# Altium integrated library Spansion Memory Flash.IntLib: 812 symbols (part 10 of 21)
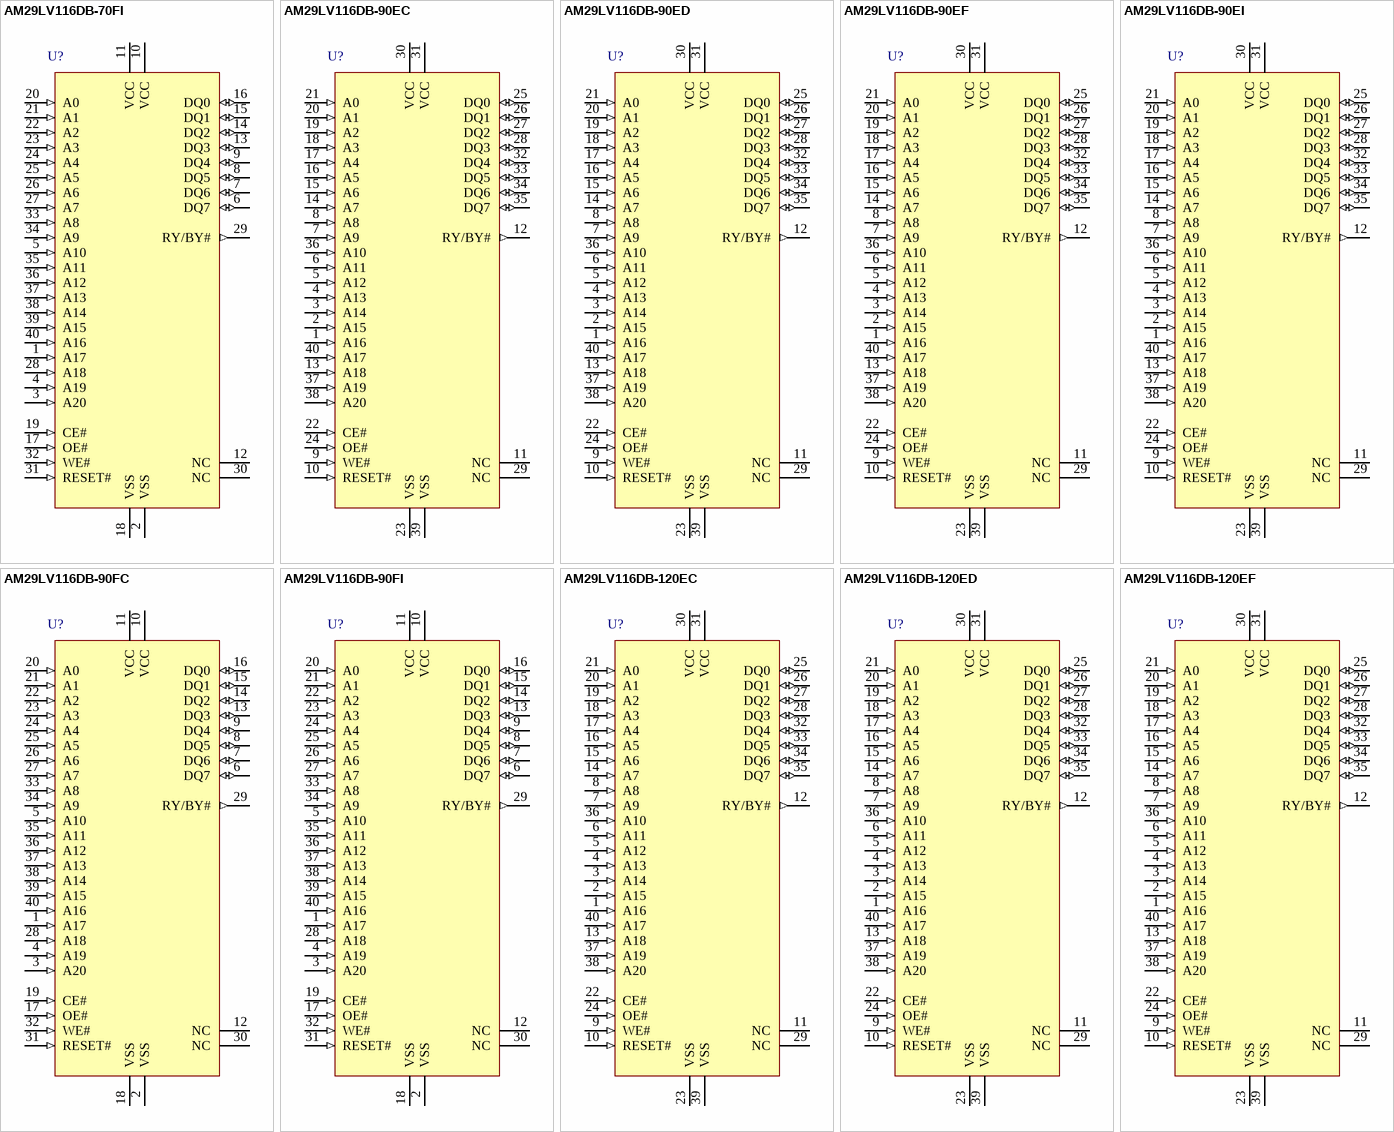
[diagram p75: symbols AM29LV116DB-70FI to AM29LV116DB-120EF]

## AM29LV116DB-70FI
designator U?
16 Mb (2 M x 8) CMOS 3.0 Volt Boot Sector Flash Memory, 40-Pin TSOP Reverse Pinout, Industrial Grade; Published: 6-Oct-2005; DatasheetVersion: May-2004; PackageVersion: revAA, 10/99; PackageReference: TSR040; Publisher: Altium Limited; PackageDescription: Thin Small Outline, Reverse Pinout; 40 Leads; Body Width 18.4 mm; Pitch 0.5 mm; Code_JEDEC: MO-142-CD; ComponentLink1Description: Manufacturer Link; ComponentLink1URL: http://www.spansion.com/; ComponentLink2Description: Datasheet; ComponentLink2URL: http://www.spansion.com/datasheets/21359e2.pdf
footprint TSR040 (Thin Small Outline, Reverse Pinout; 40 Leads; Body Width 18.4 mm; Pitch 0.5 mm)
pins: 1 A17 (in), 2 VSS (power), 3 A20 (in), 4 A19 (in), 5 A10 (in), 6 DQ7 (io), 7 DQ6 (io), 8 DQ5 (io), 9 DQ4 (io), 10 VCC (power), 11 VCC (power), 12 NC, 13 DQ3 (io), 14 DQ2 (io), 15 DQ1 (io), 16 DQ0 (io), 17 OE# (in), 18 VSS (power), 19 CE# (in), 20 A0 (in), 21 A1 (in), 22 A2 (in), 23 A3 (in), 24 A4 (in), 25 A5 (in), 26 A6 (in), 27 A7 (in), 28 A18 (in), 29 RY/BY# (out), 30 NC, 31 RESET# (in), 32 WE# (in), 33 A8 (in), 34 A9 (in), 35 A11 (in), 36 A12 (in), 37 A13 (in), 38 A14 (in), 39 A15 (in), 40 A16 (in)

## AM29LV116DB-90EC
designator U?
16 Mb (2 M x 8) CMOS 3.0 Volt Boot Sector Flash Memory, 40-Pin TSOP Standard Pinout, Commercial Grade; Published: 6-Oct-2005; DatasheetVersion: May-2004; PackageVersion: revAA, 10/99; PackageReference: TS040; Publisher: Altium Limited; PackageDescription: Thin Small Outline; 40 Leads; Body Width 18.4 mm; Pitch 0.5 mm; Code_JEDEC: MO-142-CD; ComponentLink1Description: Manufacturer Link; ComponentLink1URL: http://www.spansion.com/; ComponentLink2Description: Datasheet; ComponentLink2URL: http://www.spansion.com/datasheets/21359e2.pdf
footprint TS040 (Thin Small Outline; 40 Leads; Body Width 18.4 mm; Pitch 0.5 mm)
pins: 1 A16 (in), 2 A15 (in), 3 A14 (in), 4 A13 (in), 5 A12 (in), 6 A11 (in), 7 A9 (in), 8 A8 (in), 9 WE# (in), 10 RESET# (in), 11 NC, 12 RY/BY# (out), 13 A18 (in), 14 A7 (in), 15 A6 (in), 16 A5 (in), 17 A4 (in), 18 A3 (in), 19 A2 (in), 20 A1 (in), 21 A0 (in), 22 CE# (in), 23 VSS (power), 24 OE# (in), 25 DQ0 (io), 26 DQ1 (io), 27 DQ2 (io), 28 DQ3 (io), 29 NC, 30 VCC (power), 31 VCC (power), 32 DQ4 (io), 33 DQ5 (io), 34 DQ6 (io), 35 DQ7 (io), 36 A10 (in), 37 A19 (in), 38 A20 (in), 39 VSS (power), 40 A17 (in)

## AM29LV116DB-90ED
designator U?
16 Mb (2 M x 8) CMOS 3.0 Volt Boot Sector Flash Memory, 40-Pin TSOP Standard Pinout, Commercial Grade, Pb-free; Published: 6-Oct-2005; DatasheetVersion: May-2004; PackageVersion: revAA, 10/99; PackageReference: TS040; Publisher: Altium Limited; PackageDescription: Thin Small Outline; 40 Leads; Body Width 18.4 mm; Pitch 0.5 mm; Code_JEDEC: MO-142-CD; ComponentLink1Description: Manufacturer Link; ComponentLink1URL: http://www.spansion.com/; ComponentLink2Description: Datasheet; ComponentLink2URL: http://www.spansion.com/datasheets/21359e2.pdf
footprint TS040 (Thin Small Outline; 40 Leads; Body Width 18.4 mm; Pitch 0.5 mm)
pins: 1 A16 (in), 2 A15 (in), 3 A14 (in), 4 A13 (in), 5 A12 (in), 6 A11 (in), 7 A9 (in), 8 A8 (in), 9 WE# (in), 10 RESET# (in), 11 NC, 12 RY/BY# (out), 13 A18 (in), 14 A7 (in), 15 A6 (in), 16 A5 (in), 17 A4 (in), 18 A3 (in), 19 A2 (in), 20 A1 (in), 21 A0 (in), 22 CE# (in), 23 VSS (power), 24 OE# (in), 25 DQ0 (io), 26 DQ1 (io), 27 DQ2 (io), 28 DQ3 (io), 29 NC, 30 VCC (power), 31 VCC (power), 32 DQ4 (io), 33 DQ5 (io), 34 DQ6 (io), 35 DQ7 (io), 36 A10 (in), 37 A19 (in), 38 A20 (in), 39 VSS (power), 40 A17 (in)

## AM29LV116DB-90EF
designator U?
16 Mb (2 M x 8) CMOS 3.0 Volt Boot Sector Flash Memory, 40-Pin TSOP Standard Pinout, Industrial Grade, Pb-free; Published: 6-Oct-2005; DatasheetVersion: May-2004; PackageVersion: revAA, 10/99; PackageReference: TS040; Publisher: Altium Limited; PackageDescription: Thin Small Outline; 40 Leads; Body Width 18.4 mm; Pitch 0.5 mm; Code_JEDEC: MO-142-CD; ComponentLink1Description: Manufacturer Link; ComponentLink1URL: http://www.spansion.com/; ComponentLink2Description: Datasheet; ComponentLink2URL: http://www.spansion.com/datasheets/21359e2.pdf
footprint TS040 (Thin Small Outline; 40 Leads; Body Width 18.4 mm; Pitch 0.5 mm)
pins: 1 A16 (in), 2 A15 (in), 3 A14 (in), 4 A13 (in), 5 A12 (in), 6 A11 (in), 7 A9 (in), 8 A8 (in), 9 WE# (in), 10 RESET# (in), 11 NC, 12 RY/BY# (out), 13 A18 (in), 14 A7 (in), 15 A6 (in), 16 A5 (in), 17 A4 (in), 18 A3 (in), 19 A2 (in), 20 A1 (in), 21 A0 (in), 22 CE# (in), 23 VSS (power), 24 OE# (in), 25 DQ0 (io), 26 DQ1 (io), 27 DQ2 (io), 28 DQ3 (io), 29 NC, 30 VCC (power), 31 VCC (power), 32 DQ4 (io), 33 DQ5 (io), 34 DQ6 (io), 35 DQ7 (io), 36 A10 (in), 37 A19 (in), 38 A20 (in), 39 VSS (power), 40 A17 (in)

## AM29LV116DB-90EI
designator U?
16 Mb (2 M x 8) CMOS 3.0 Volt Boot Sector Flash Memory, 40-Pin TSOP Standard Pinout, Industrial Grade; Published: 6-Oct-2005; DatasheetVersion: May-2004; PackageVersion: revAA, 10/99; PackageReference: TS040; Publisher: Altium Limited; PackageDescription: Thin Small Outline; 40 Leads; Body Width 18.4 mm; Pitch 0.5 mm; Code_JEDEC: MO-142-CD; ComponentLink1Description: Manufacturer Link; ComponentLink1URL: http://www.spansion.com/; ComponentLink2Description: Datasheet; ComponentLink2URL: http://www.spansion.com/datasheets/21359e2.pdf
footprint TS040 (Thin Small Outline; 40 Leads; Body Width 18.4 mm; Pitch 0.5 mm)
pins: 1 A16 (in), 2 A15 (in), 3 A14 (in), 4 A13 (in), 5 A12 (in), 6 A11 (in), 7 A9 (in), 8 A8 (in), 9 WE# (in), 10 RESET# (in), 11 NC, 12 RY/BY# (out), 13 A18 (in), 14 A7 (in), 15 A6 (in), 16 A5 (in), 17 A4 (in), 18 A3 (in), 19 A2 (in), 20 A1 (in), 21 A0 (in), 22 CE# (in), 23 VSS (power), 24 OE# (in), 25 DQ0 (io), 26 DQ1 (io), 27 DQ2 (io), 28 DQ3 (io), 29 NC, 30 VCC (power), 31 VCC (power), 32 DQ4 (io), 33 DQ5 (io), 34 DQ6 (io), 35 DQ7 (io), 36 A10 (in), 37 A19 (in), 38 A20 (in), 39 VSS (power), 40 A17 (in)

## AM29LV116DB-90FC
designator U?
16 Mb (2 M x 8) CMOS 3.0 Volt Boot Sector Flash Memory, 40-Pin TSOP Reverse Pinout, Commercial Grade; Published: 6-Oct-2005; DatasheetVersion: May-2004; PackageVersion: revAA, 10/99; PackageReference: TSR040; Publisher: Altium Limited; PackageDescription: Thin Small Outline, Reverse Pinout; 40 Leads; Body Width 18.4 mm; Pitch 0.5 mm; Code_JEDEC: MO-142-CD; ComponentLink1Description: Manufacturer Link; ComponentLink1URL: http://www.spansion.com/; ComponentLink2Description: Datasheet; ComponentLink2URL: http://www.spansion.com/datasheets/21359e2.pdf
footprint TSR040 (Thin Small Outline, Reverse Pinout; 40 Leads; Body Width 18.4 mm; Pitch 0.5 mm)
pins: 1 A17 (in), 2 VSS (power), 3 A20 (in), 4 A19 (in), 5 A10 (in), 6 DQ7 (io), 7 DQ6 (io), 8 DQ5 (io), 9 DQ4 (io), 10 VCC (power), 11 VCC (power), 12 NC, 13 DQ3 (io), 14 DQ2 (io), 15 DQ1 (io), 16 DQ0 (io), 17 OE# (in), 18 VSS (power), 19 CE# (in), 20 A0 (in), 21 A1 (in), 22 A2 (in), 23 A3 (in), 24 A4 (in), 25 A5 (in), 26 A6 (in), 27 A7 (in), 28 A18 (in), 29 RY/BY# (out), 30 NC, 31 RESET# (in), 32 WE# (in), 33 A8 (in), 34 A9 (in), 35 A11 (in), 36 A12 (in), 37 A13 (in), 38 A14 (in), 39 A15 (in), 40 A16 (in)

## AM29LV116DB-90FI
designator U?
16 Mb (2 M x 8) CMOS 3.0 Volt Boot Sector Flash Memory, 40-Pin TSOP Reverse Pinout, Industrial Grade; Published: 6-Oct-2005; DatasheetVersion: May-2004; PackageVersion: revAA, 10/99; PackageReference: TSR040; Publisher: Altium Limited; PackageDescription: Thin Small Outline, Reverse Pinout; 40 Leads; Body Width 18.4 mm; Pitch 0.5 mm; Code_JEDEC: MO-142-CD; ComponentLink1Description: Manufacturer Link; ComponentLink1URL: http://www.spansion.com/; ComponentLink2Description: Datasheet; ComponentLink2URL: http://www.spansion.com/datasheets/21359e2.pdf
footprint TSR040 (Thin Small Outline, Reverse Pinout; 40 Leads; Body Width 18.4 mm; Pitch 0.5 mm)
pins: 1 A17 (in), 2 VSS (power), 3 A20 (in), 4 A19 (in), 5 A10 (in), 6 DQ7 (io), 7 DQ6 (io), 8 DQ5 (io), 9 DQ4 (io), 10 VCC (power), 11 VCC (power), 12 NC, 13 DQ3 (io), 14 DQ2 (io), 15 DQ1 (io), 16 DQ0 (io), 17 OE# (in), 18 VSS (power), 19 CE# (in), 20 A0 (in), 21 A1 (in), 22 A2 (in), 23 A3 (in), 24 A4 (in), 25 A5 (in), 26 A6 (in), 27 A7 (in), 28 A18 (in), 29 RY/BY# (out), 30 NC, 31 RESET# (in), 32 WE# (in), 33 A8 (in), 34 A9 (in), 35 A11 (in), 36 A12 (in), 37 A13 (in), 38 A14 (in), 39 A15 (in), 40 A16 (in)

## AM29LV116DB-120EC
designator U?
16 Mb (2 M x 8) CMOS 3.0 Volt Boot Sector Flash Memory, 40-Pin TSOP Standard Pinout, Commercial Grade; Published: 6-Oct-2005; DatasheetVersion: May-2004; PackageVersion: revAA, 10/99; PackageReference: TS040; Publisher: Altium Limited; PackageDescription: Thin Small Outline; 40 Leads; Body Width 18.4 mm; Pitch 0.5 mm; Code_JEDEC: MO-142-CD; ComponentLink1Description: Manufacturer Link; ComponentLink1URL: http://www.spansion.com/; ComponentLink2Description: Datasheet; ComponentLink2URL: http://www.spansion.com/datasheets/21359e2.pdf
footprint TS040 (Thin Small Outline; 40 Leads; Body Width 18.4 mm; Pitch 0.5 mm)
pins: 1 A16 (in), 2 A15 (in), 3 A14 (in), 4 A13 (in), 5 A12 (in), 6 A11 (in), 7 A9 (in), 8 A8 (in), 9 WE# (in), 10 RESET# (in), 11 NC, 12 RY/BY# (out), 13 A18 (in), 14 A7 (in), 15 A6 (in), 16 A5 (in), 17 A4 (in), 18 A3 (in), 19 A2 (in), 20 A1 (in), 21 A0 (in), 22 CE# (in), 23 VSS (power), 24 OE# (in), 25 DQ0 (io), 26 DQ1 (io), 27 DQ2 (io), 28 DQ3 (io), 29 NC, 30 VCC (power), 31 VCC (power), 32 DQ4 (io), 33 DQ5 (io), 34 DQ6 (io), 35 DQ7 (io), 36 A10 (in), 37 A19 (in), 38 A20 (in), 39 VSS (power), 40 A17 (in)

## AM29LV116DB-120ED
designator U?
16 Mb (2 M x 8) CMOS 3.0 Volt Boot Sector Flash Memory, 40-Pin TSOP Standard Pinout, Commercial Grade, Pb-free; Published: 6-Oct-2005; DatasheetVersion: May-2004; PackageVersion: revAA, 10/99; PackageReference: TS040; Publisher: Altium Limited; PackageDescription: Thin Small Outline; 40 Leads; Body Width 18.4 mm; Pitch 0.5 mm; Code_JEDEC: MO-142-CD; ComponentLink1Description: Manufacturer Link; ComponentLink1URL: http://www.spansion.com/; ComponentLink2Description: Datasheet; ComponentLink2URL: http://www.spansion.com/datasheets/21359e2.pdf
footprint TS040 (Thin Small Outline; 40 Leads; Body Width 18.4 mm; Pitch 0.5 mm)
pins: 1 A16 (in), 2 A15 (in), 3 A14 (in), 4 A13 (in), 5 A12 (in), 6 A11 (in), 7 A9 (in), 8 A8 (in), 9 WE# (in), 10 RESET# (in), 11 NC, 12 RY/BY# (out), 13 A18 (in), 14 A7 (in), 15 A6 (in), 16 A5 (in), 17 A4 (in), 18 A3 (in), 19 A2 (in), 20 A1 (in), 21 A0 (in), 22 CE# (in), 23 VSS (power), 24 OE# (in), 25 DQ0 (io), 26 DQ1 (io), 27 DQ2 (io), 28 DQ3 (io), 29 NC, 30 VCC (power), 31 VCC (power), 32 DQ4 (io), 33 DQ5 (io), 34 DQ6 (io), 35 DQ7 (io), 36 A10 (in), 37 A19 (in), 38 A20 (in), 39 VSS (power), 40 A17 (in)

## AM29LV116DB-120EF
designator U?
16 Mb (2 M x 8) CMOS 3.0 Volt Boot Sector Flash Memory, 40-Pin TSOP Standard Pinout, Industrial Grade, Pb-free; Published: 6-Oct-2005; DatasheetVersion: May-2004; PackageVersion: revAA, 10/99; PackageReference: TS040; Publisher: Altium Limited; PackageDescription: Thin Small Outline; 40 Leads; Body Width 18.4 mm; Pitch 0.5 mm; Code_JEDEC: MO-142-CD; ComponentLink1Description: Manufacturer Link; ComponentLink1URL: http://www.spansion.com/; ComponentLink2Description: Datasheet; ComponentLink2URL: http://www.spansion.com/datasheets/21359e2.pdf
footprint TS040 (Thin Small Outline; 40 Leads; Body Width 18.4 mm; Pitch 0.5 mm)
pins: 1 A16 (in), 2 A15 (in), 3 A14 (in), 4 A13 (in), 5 A12 (in), 6 A11 (in), 7 A9 (in), 8 A8 (in), 9 WE# (in), 10 RESET# (in), 11 NC, 12 RY/BY# (out), 13 A18 (in), 14 A7 (in), 15 A6 (in), 16 A5 (in), 17 A4 (in), 18 A3 (in), 19 A2 (in), 20 A1 (in), 21 A0 (in), 22 CE# (in), 23 VSS (power), 24 OE# (in), 25 DQ0 (io), 26 DQ1 (io), 27 DQ2 (io), 28 DQ3 (io), 29 NC, 30 VCC (power), 31 VCC (power), 32 DQ4 (io), 33 DQ5 (io), 34 DQ6 (io), 35 DQ7 (io), 36 A10 (in), 37 A19 (in), 38 A20 (in), 39 VSS (power), 40 A17 (in)

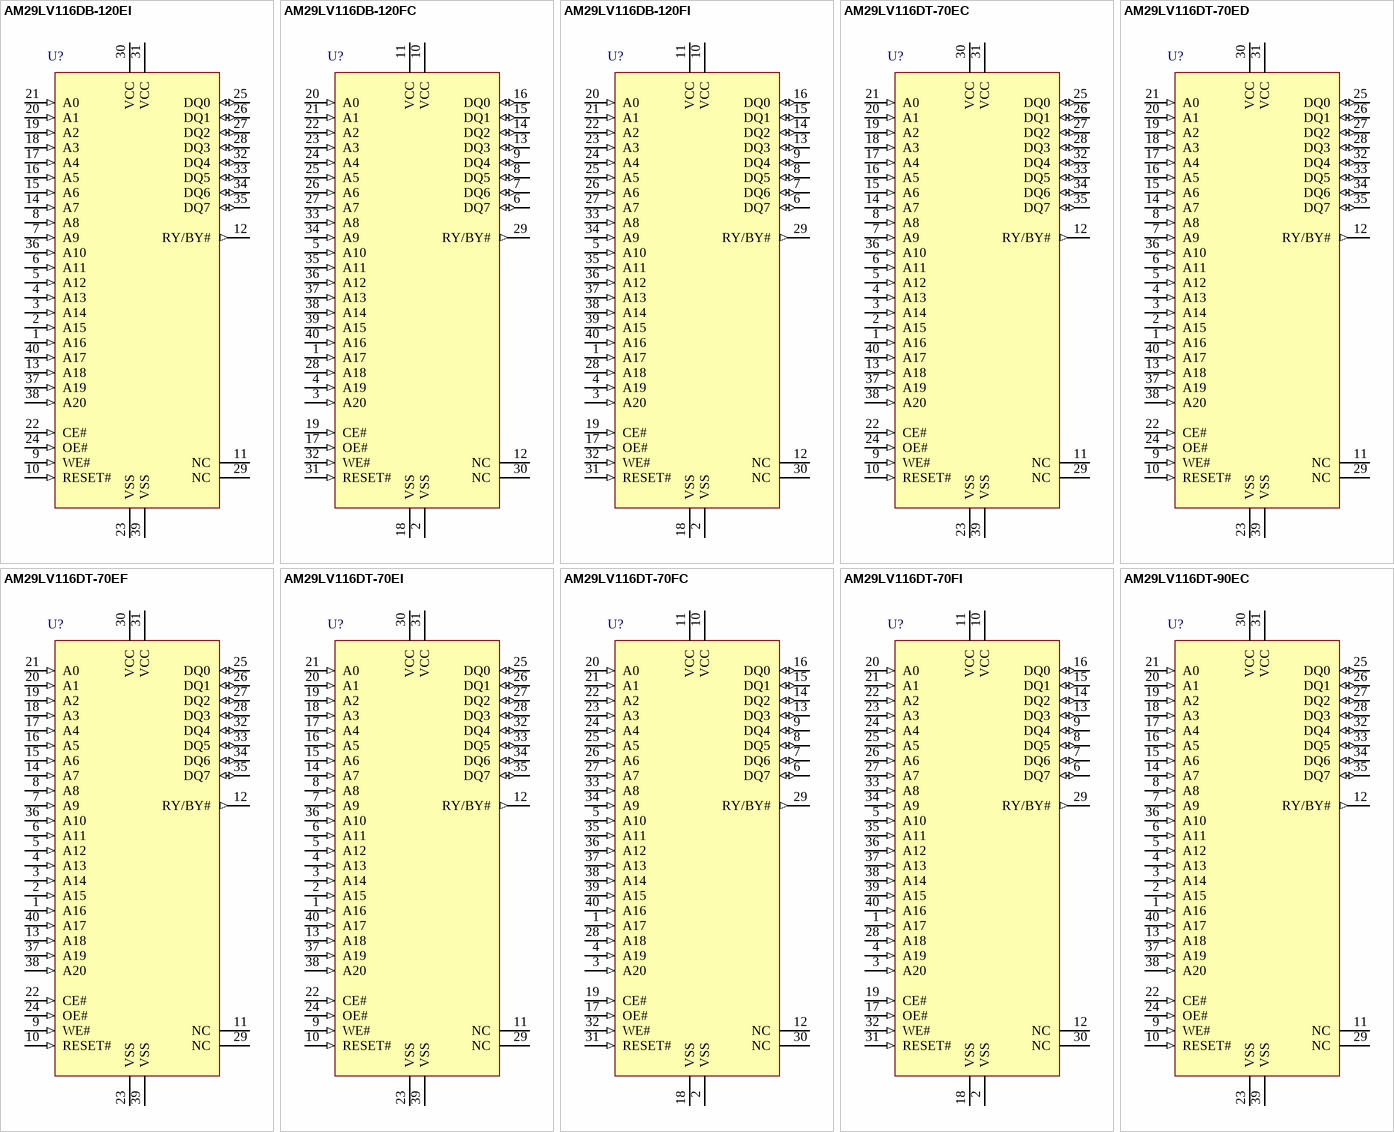
[diagram p30: symbols AM29LV116DB-120EI to AM29LV116DT-90EC]

## AM29LV116DB-120EI
designator U?
16 Mb (2 M x 8) CMOS 3.0 Volt Boot Sector Flash Memory, 40-Pin TSOP Standard Pinout, Industrial Grade; Published: 6-Oct-2005; DatasheetVersion: May-2004; PackageVersion: revAA, 10/99; PackageReference: TS040; Publisher: Altium Limited; PackageDescription: Thin Small Outline; 40 Leads; Body Width 18.4 mm; Pitch 0.5 mm; Code_JEDEC: MO-142-CD; ComponentLink1Description: Manufacturer Link; ComponentLink1URL: http://www.spansion.com/; ComponentLink2Description: Datasheet; ComponentLink2URL: http://www.spansion.com/datasheets/21359e2.pdf
footprint TS040 (Thin Small Outline; 40 Leads; Body Width 18.4 mm; Pitch 0.5 mm)
pins: 1 A16 (in), 2 A15 (in), 3 A14 (in), 4 A13 (in), 5 A12 (in), 6 A11 (in), 7 A9 (in), 8 A8 (in), 9 WE# (in), 10 RESET# (in), 11 NC, 12 RY/BY# (out), 13 A18 (in), 14 A7 (in), 15 A6 (in), 16 A5 (in), 17 A4 (in), 18 A3 (in), 19 A2 (in), 20 A1 (in), 21 A0 (in), 22 CE# (in), 23 VSS (power), 24 OE# (in), 25 DQ0 (io), 26 DQ1 (io), 27 DQ2 (io), 28 DQ3 (io), 29 NC, 30 VCC (power), 31 VCC (power), 32 DQ4 (io), 33 DQ5 (io), 34 DQ6 (io), 35 DQ7 (io), 36 A10 (in), 37 A19 (in), 38 A20 (in), 39 VSS (power), 40 A17 (in)

## AM29LV116DB-120FC
designator U?
16 Mb (2 M x 8) CMOS 3.0 Volt Boot Sector Flash Memory, 40-Pin TSOP Reverse Pinout, Commercial Grade; Published: 6-Oct-2005; DatasheetVersion: May-2004; PackageVersion: revAA, 10/99; PackageReference: TSR040; Publisher: Altium Limited; PackageDescription: Thin Small Outline, Reverse Pinout; 40 Leads; Body Width 18.4 mm; Pitch 0.5 mm; Code_JEDEC: MO-142-CD; ComponentLink1Description: Manufacturer Link; ComponentLink1URL: http://www.spansion.com/; ComponentLink2Description: Datasheet; ComponentLink2URL: http://www.spansion.com/datasheets/21359e2.pdf
footprint TSR040 (Thin Small Outline, Reverse Pinout; 40 Leads; Body Width 18.4 mm; Pitch 0.5 mm)
pins: 1 A17 (in), 2 VSS (power), 3 A20 (in), 4 A19 (in), 5 A10 (in), 6 DQ7 (io), 7 DQ6 (io), 8 DQ5 (io), 9 DQ4 (io), 10 VCC (power), 11 VCC (power), 12 NC, 13 DQ3 (io), 14 DQ2 (io), 15 DQ1 (io), 16 DQ0 (io), 17 OE# (in), 18 VSS (power), 19 CE# (in), 20 A0 (in), 21 A1 (in), 22 A2 (in), 23 A3 (in), 24 A4 (in), 25 A5 (in), 26 A6 (in), 27 A7 (in), 28 A18 (in), 29 RY/BY# (out), 30 NC, 31 RESET# (in), 32 WE# (in), 33 A8 (in), 34 A9 (in), 35 A11 (in), 36 A12 (in), 37 A13 (in), 38 A14 (in), 39 A15 (in), 40 A16 (in)

## AM29LV116DB-120FI
designator U?
16 Mb (2 M x 8) CMOS 3.0 Volt Boot Sector Flash Memory, 40-Pin TSOP Reverse Pinout, Industrial Grade; Published: 6-Oct-2005; DatasheetVersion: May-2004; PackageVersion: revAA, 10/99; PackageReference: TSR040; Publisher: Altium Limited; PackageDescription: Thin Small Outline, Reverse Pinout; 40 Leads; Body Width 18.4 mm; Pitch 0.5 mm; Code_JEDEC: MO-142-CD; ComponentLink1Description: Manufacturer Link; ComponentLink1URL: http://www.spansion.com/; ComponentLink2Description: Datasheet; ComponentLink2URL: http://www.spansion.com/datasheets/21359e2.pdf
footprint TSR040 (Thin Small Outline, Reverse Pinout; 40 Leads; Body Width 18.4 mm; Pitch 0.5 mm)
pins: 1 A17 (in), 2 VSS (power), 3 A20 (in), 4 A19 (in), 5 A10 (in), 6 DQ7 (io), 7 DQ6 (io), 8 DQ5 (io), 9 DQ4 (io), 10 VCC (power), 11 VCC (power), 12 NC, 13 DQ3 (io), 14 DQ2 (io), 15 DQ1 (io), 16 DQ0 (io), 17 OE# (in), 18 VSS (power), 19 CE# (in), 20 A0 (in), 21 A1 (in), 22 A2 (in), 23 A3 (in), 24 A4 (in), 25 A5 (in), 26 A6 (in), 27 A7 (in), 28 A18 (in), 29 RY/BY# (out), 30 NC, 31 RESET# (in), 32 WE# (in), 33 A8 (in), 34 A9 (in), 35 A11 (in), 36 A12 (in), 37 A13 (in), 38 A14 (in), 39 A15 (in), 40 A16 (in)

## AM29LV116DT-70EC
designator U?
16 Mb (2 M x 8) CMOS 3.0 Volt Boot Sector Flash Memory, 40-Pin TSOP Standard Pinout, Commercial Grade; Published: 6-Oct-2005; DatasheetVersion: May-2004; PackageVersion: revAA, 10/99; PackageReference: TS040; Publisher: Altium Limited; PackageDescription: Thin Small Outline; 40 Leads; Body Width 18.4 mm; Pitch 0.5 mm; Code_JEDEC: MO-142-CD; ComponentLink1Description: Manufacturer Link; ComponentLink1URL: http://www.spansion.com/; ComponentLink2Description: Datasheet; ComponentLink2URL: http://www.spansion.com/datasheets/21359e2.pdf
footprint TS040 (Thin Small Outline; 40 Leads; Body Width 18.4 mm; Pitch 0.5 mm)
pins: 1 A16 (in), 2 A15 (in), 3 A14 (in), 4 A13 (in), 5 A12 (in), 6 A11 (in), 7 A9 (in), 8 A8 (in), 9 WE# (in), 10 RESET# (in), 11 NC, 12 RY/BY# (out), 13 A18 (in), 14 A7 (in), 15 A6 (in), 16 A5 (in), 17 A4 (in), 18 A3 (in), 19 A2 (in), 20 A1 (in), 21 A0 (in), 22 CE# (in), 23 VSS (power), 24 OE# (in), 25 DQ0 (io), 26 DQ1 (io), 27 DQ2 (io), 28 DQ3 (io), 29 NC, 30 VCC (power), 31 VCC (power), 32 DQ4 (io), 33 DQ5 (io), 34 DQ6 (io), 35 DQ7 (io), 36 A10 (in), 37 A19 (in), 38 A20 (in), 39 VSS (power), 40 A17 (in)

## AM29LV116DT-70ED
designator U?
16 Mb (2 M x 8) CMOS 3.0 Volt Boot Sector Flash Memory, 40-Pin TSOP Standard Pinout, Commercial Grade, Pb-free; Published: 6-Oct-2005; DatasheetVersion: May-2004; PackageVersion: revAA, 10/99; PackageReference: TS040; Publisher: Altium Limited; PackageDescription: Thin Small Outline; 40 Leads; Body Width 18.4 mm; Pitch 0.5 mm; Code_JEDEC: MO-142-CD; ComponentLink1Description: Manufacturer Link; ComponentLink1URL: http://www.spansion.com/; ComponentLink2Description: Datasheet; ComponentLink2URL: http://www.spansion.com/datasheets/21359e2.pdf
footprint TS040 (Thin Small Outline; 40 Leads; Body Width 18.4 mm; Pitch 0.5 mm)
pins: 1 A16 (in), 2 A15 (in), 3 A14 (in), 4 A13 (in), 5 A12 (in), 6 A11 (in), 7 A9 (in), 8 A8 (in), 9 WE# (in), 10 RESET# (in), 11 NC, 12 RY/BY# (out), 13 A18 (in), 14 A7 (in), 15 A6 (in), 16 A5 (in), 17 A4 (in), 18 A3 (in), 19 A2 (in), 20 A1 (in), 21 A0 (in), 22 CE# (in), 23 VSS (power), 24 OE# (in), 25 DQ0 (io), 26 DQ1 (io), 27 DQ2 (io), 28 DQ3 (io), 29 NC, 30 VCC (power), 31 VCC (power), 32 DQ4 (io), 33 DQ5 (io), 34 DQ6 (io), 35 DQ7 (io), 36 A10 (in), 37 A19 (in), 38 A20 (in), 39 VSS (power), 40 A17 (in)

## AM29LV116DT-70EF
designator U?
16 Mb (2 M x 8) CMOS 3.0 Volt Boot Sector Flash Memory, 40-Pin TSOP Standard Pinout, Industrial Grade, Pb-free; Published: 6-Oct-2005; DatasheetVersion: May-2004; PackageVersion: revAA, 10/99; PackageReference: TS040; Publisher: Altium Limited; PackageDescription: Thin Small Outline; 40 Leads; Body Width 18.4 mm; Pitch 0.5 mm; Code_JEDEC: MO-142-CD; ComponentLink1Description: Manufacturer Link; ComponentLink1URL: http://www.spansion.com/; ComponentLink2Description: Datasheet; ComponentLink2URL: http://www.spansion.com/datasheets/21359e2.pdf
footprint TS040 (Thin Small Outline; 40 Leads; Body Width 18.4 mm; Pitch 0.5 mm)
pins: 1 A16 (in), 2 A15 (in), 3 A14 (in), 4 A13 (in), 5 A12 (in), 6 A11 (in), 7 A9 (in), 8 A8 (in), 9 WE# (in), 10 RESET# (in), 11 NC, 12 RY/BY# (out), 13 A18 (in), 14 A7 (in), 15 A6 (in), 16 A5 (in), 17 A4 (in), 18 A3 (in), 19 A2 (in), 20 A1 (in), 21 A0 (in), 22 CE# (in), 23 VSS (power), 24 OE# (in), 25 DQ0 (io), 26 DQ1 (io), 27 DQ2 (io), 28 DQ3 (io), 29 NC, 30 VCC (power), 31 VCC (power), 32 DQ4 (io), 33 DQ5 (io), 34 DQ6 (io), 35 DQ7 (io), 36 A10 (in), 37 A19 (in), 38 A20 (in), 39 VSS (power), 40 A17 (in)

## AM29LV116DT-70EI
designator U?
16 Mb (2 M x 8) CMOS 3.0 Volt Boot Sector Flash Memory, 40-Pin TSOP Standard Pinout, Industrial Grade; Published: 6-Oct-2005; DatasheetVersion: May-2004; PackageVersion: revAA, 10/99; PackageReference: TS040; Publisher: Altium Limited; PackageDescription: Thin Small Outline; 40 Leads; Body Width 18.4 mm; Pitch 0.5 mm; Code_JEDEC: MO-142-CD; ComponentLink1Description: Manufacturer Link; ComponentLink1URL: http://www.spansion.com/; ComponentLink2Description: Datasheet; ComponentLink2URL: http://www.spansion.com/datasheets/21359e2.pdf
footprint TS040 (Thin Small Outline; 40 Leads; Body Width 18.4 mm; Pitch 0.5 mm)
pins: 1 A16 (in), 2 A15 (in), 3 A14 (in), 4 A13 (in), 5 A12 (in), 6 A11 (in), 7 A9 (in), 8 A8 (in), 9 WE# (in), 10 RESET# (in), 11 NC, 12 RY/BY# (out), 13 A18 (in), 14 A7 (in), 15 A6 (in), 16 A5 (in), 17 A4 (in), 18 A3 (in), 19 A2 (in), 20 A1 (in), 21 A0 (in), 22 CE# (in), 23 VSS (power), 24 OE# (in), 25 DQ0 (io), 26 DQ1 (io), 27 DQ2 (io), 28 DQ3 (io), 29 NC, 30 VCC (power), 31 VCC (power), 32 DQ4 (io), 33 DQ5 (io), 34 DQ6 (io), 35 DQ7 (io), 36 A10 (in), 37 A19 (in), 38 A20 (in), 39 VSS (power), 40 A17 (in)

## AM29LV116DT-70FC
designator U?
16 Mb (2 M x 8) CMOS 3.0 Volt Boot Sector Flash Memory, 40-Pin TSOP Reverse Pinout, Commercial Grade; Published: 6-Oct-2005; DatasheetVersion: May-2004; PackageVersion: revAA, 10/99; PackageReference: TSR040; Publisher: Altium Limited; PackageDescription: Thin Small Outline, Reverse Pinout; 40 Leads; Body Width 18.4 mm; Pitch 0.5 mm; Code_JEDEC: MO-142-CD; ComponentLink1Description: Manufacturer Link; ComponentLink1URL: http://www.spansion.com/; ComponentLink2Description: Datasheet; ComponentLink2URL: http://www.spansion.com/datasheets/21359e2.pdf
footprint TSR040 (Thin Small Outline, Reverse Pinout; 40 Leads; Body Width 18.4 mm; Pitch 0.5 mm)
pins: 1 A17 (in), 2 VSS (power), 3 A20 (in), 4 A19 (in), 5 A10 (in), 6 DQ7 (io), 7 DQ6 (io), 8 DQ5 (io), 9 DQ4 (io), 10 VCC (power), 11 VCC (power), 12 NC, 13 DQ3 (io), 14 DQ2 (io), 15 DQ1 (io), 16 DQ0 (io), 17 OE# (in), 18 VSS (power), 19 CE# (in), 20 A0 (in), 21 A1 (in), 22 A2 (in), 23 A3 (in), 24 A4 (in), 25 A5 (in), 26 A6 (in), 27 A7 (in), 28 A18 (in), 29 RY/BY# (out), 30 NC, 31 RESET# (in), 32 WE# (in), 33 A8 (in), 34 A9 (in), 35 A11 (in), 36 A12 (in), 37 A13 (in), 38 A14 (in), 39 A15 (in), 40 A16 (in)

## AM29LV116DT-70FI
designator U?
16 Mb (2 M x 8) CMOS 3.0 Volt Boot Sector Flash Memory, 40-Pin TSOP Reverse Pinout, Industrial Grade; Published: 6-Oct-2005; DatasheetVersion: May-2004; PackageVersion: revAA, 10/99; PackageReference: TSR040; Publisher: Altium Limited; PackageDescription: Thin Small Outline, Reverse Pinout; 40 Leads; Body Width 18.4 mm; Pitch 0.5 mm; Code_JEDEC: MO-142-CD; ComponentLink1Description: Manufacturer Link; ComponentLink1URL: http://www.spansion.com/; ComponentLink2Description: Datasheet; ComponentLink2URL: http://www.spansion.com/datasheets/21359e2.pdf
footprint TSR040 (Thin Small Outline, Reverse Pinout; 40 Leads; Body Width 18.4 mm; Pitch 0.5 mm)
pins: 1 A17 (in), 2 VSS (power), 3 A20 (in), 4 A19 (in), 5 A10 (in), 6 DQ7 (io), 7 DQ6 (io), 8 DQ5 (io), 9 DQ4 (io), 10 VCC (power), 11 VCC (power), 12 NC, 13 DQ3 (io), 14 DQ2 (io), 15 DQ1 (io), 16 DQ0 (io), 17 OE# (in), 18 VSS (power), 19 CE# (in), 20 A0 (in), 21 A1 (in), 22 A2 (in), 23 A3 (in), 24 A4 (in), 25 A5 (in), 26 A6 (in), 27 A7 (in), 28 A18 (in), 29 RY/BY# (out), 30 NC, 31 RESET# (in), 32 WE# (in), 33 A8 (in), 34 A9 (in), 35 A11 (in), 36 A12 (in), 37 A13 (in), 38 A14 (in), 39 A15 (in), 40 A16 (in)

## AM29LV116DT-90EC
designator U?
16 Mb (2 M x 8) CMOS 3.0 Volt Boot Sector Flash Memory, 40-Pin TSOP Standard Pinout, Commercial Grade; Published: 6-Oct-2005; DatasheetVersion: May-2004; PackageVersion: revAA, 10/99; PackageReference: TS040; Publisher: Altium Limited; PackageDescription: Thin Small Outline; 40 Leads; Body Width 18.4 mm; Pitch 0.5 mm; Code_JEDEC: MO-142-CD; ComponentLink1Description: Manufacturer Link; ComponentLink1URL: http://www.spansion.com/; ComponentLink2Description: Datasheet; ComponentLink2URL: http://www.spansion.com/datasheets/21359e2.pdf
footprint TS040 (Thin Small Outline; 40 Leads; Body Width 18.4 mm; Pitch 0.5 mm)
pins: 1 A16 (in), 2 A15 (in), 3 A14 (in), 4 A13 (in), 5 A12 (in), 6 A11 (in), 7 A9 (in), 8 A8 (in), 9 WE# (in), 10 RESET# (in), 11 NC, 12 RY/BY# (out), 13 A18 (in), 14 A7 (in), 15 A6 (in), 16 A5 (in), 17 A4 (in), 18 A3 (in), 19 A2 (in), 20 A1 (in), 21 A0 (in), 22 CE# (in), 23 VSS (power), 24 OE# (in), 25 DQ0 (io), 26 DQ1 (io), 27 DQ2 (io), 28 DQ3 (io), 29 NC, 30 VCC (power), 31 VCC (power), 32 DQ4 (io), 33 DQ5 (io), 34 DQ6 (io), 35 DQ7 (io), 36 A10 (in), 37 A19 (in), 38 A20 (in), 39 VSS (power), 40 A17 (in)

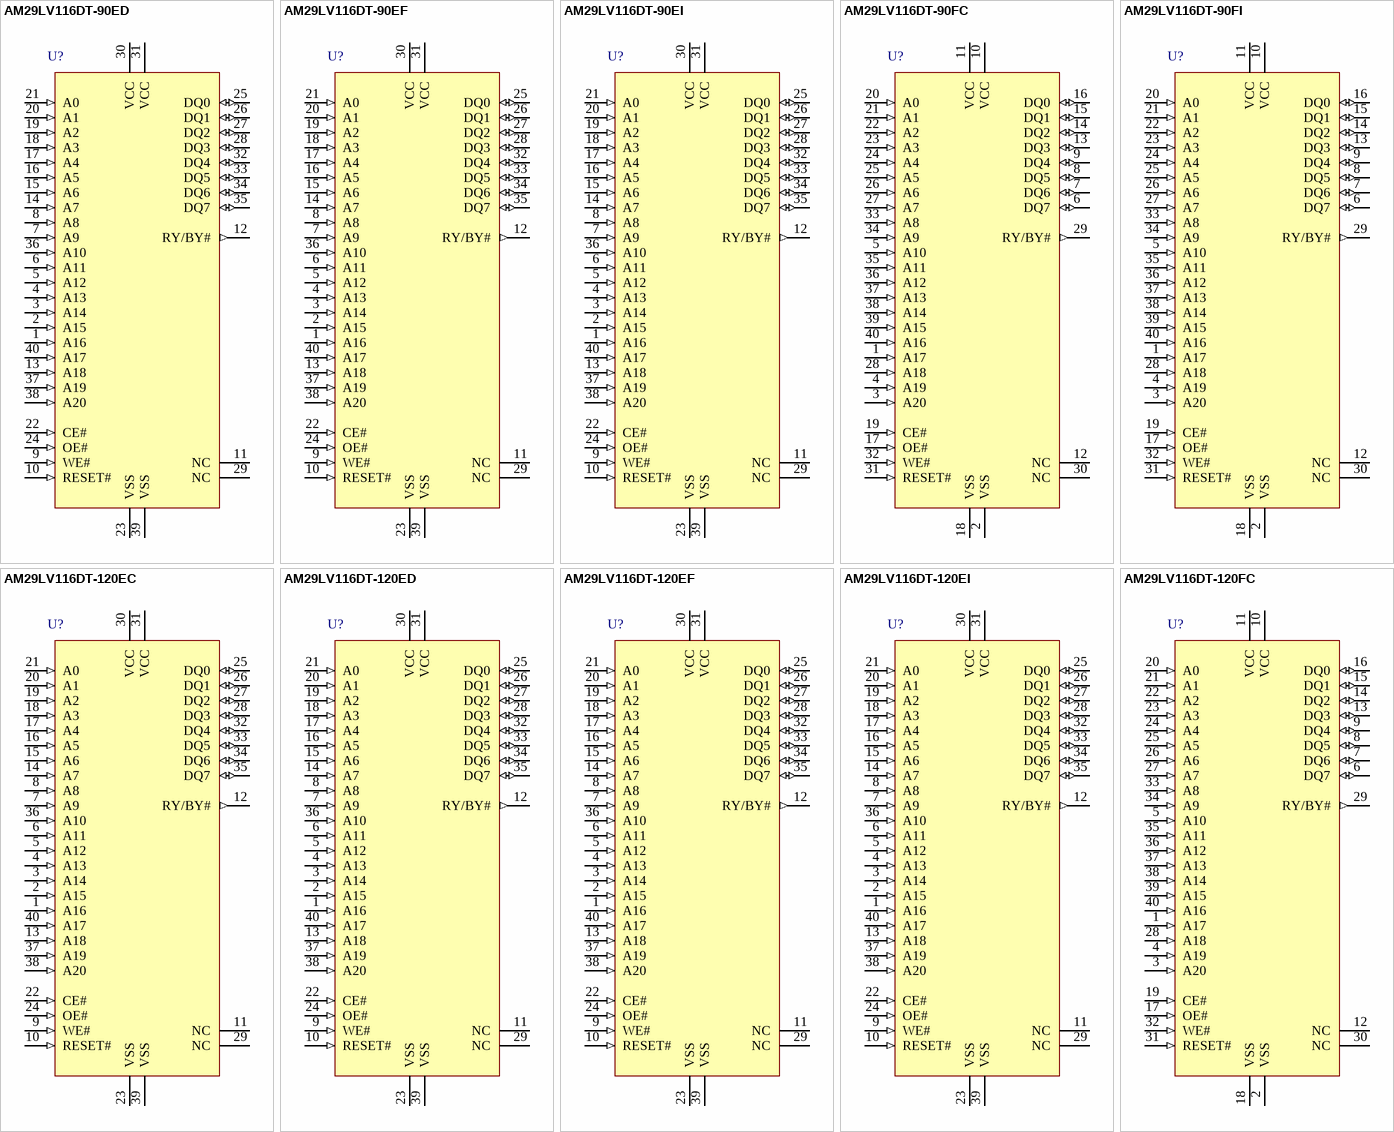
[diagram p31: symbols AM29LV116DT-90ED to AM29LV116DT-120FC]

## AM29LV116DT-90ED
designator U?
16 Mb (2 M x 8) CMOS 3.0 Volt Boot Sector Flash Memory, 40-Pin TSOP Standard Pinout, Commercial Grade, Pb-free; Published: 6-Oct-2005; DatasheetVersion: May-2004; PackageVersion: revAA, 10/99; PackageReference: TS040; Publisher: Altium Limited; PackageDescription: Thin Small Outline; 40 Leads; Body Width 18.4 mm; Pitch 0.5 mm; Code_JEDEC: MO-142-CD; ComponentLink1Description: Manufacturer Link; ComponentLink1URL: http://www.spansion.com/; ComponentLink2Description: Datasheet; ComponentLink2URL: http://www.spansion.com/datasheets/21359e2.pdf
footprint TS040 (Thin Small Outline; 40 Leads; Body Width 18.4 mm; Pitch 0.5 mm)
pins: 1 A16 (in), 2 A15 (in), 3 A14 (in), 4 A13 (in), 5 A12 (in), 6 A11 (in), 7 A9 (in), 8 A8 (in), 9 WE# (in), 10 RESET# (in), 11 NC, 12 RY/BY# (out), 13 A18 (in), 14 A7 (in), 15 A6 (in), 16 A5 (in), 17 A4 (in), 18 A3 (in), 19 A2 (in), 20 A1 (in), 21 A0 (in), 22 CE# (in), 23 VSS (power), 24 OE# (in), 25 DQ0 (io), 26 DQ1 (io), 27 DQ2 (io), 28 DQ3 (io), 29 NC, 30 VCC (power), 31 VCC (power), 32 DQ4 (io), 33 DQ5 (io), 34 DQ6 (io), 35 DQ7 (io), 36 A10 (in), 37 A19 (in), 38 A20 (in), 39 VSS (power), 40 A17 (in)

## AM29LV116DT-90EF
designator U?
16 Mb (2 M x 8) CMOS 3.0 Volt Boot Sector Flash Memory, 40-Pin TSOP Standard Pinout, Industrial Grade, Pb-free; Published: 6-Oct-2005; DatasheetVersion: May-2004; PackageVersion: revAA, 10/99; PackageReference: TS040; Publisher: Altium Limited; PackageDescription: Thin Small Outline; 40 Leads; Body Width 18.4 mm; Pitch 0.5 mm; Code_JEDEC: MO-142-CD; ComponentLink1Description: Manufacturer Link; ComponentLink1URL: http://www.spansion.com/; ComponentLink2Description: Datasheet; ComponentLink2URL: http://www.spansion.com/datasheets/21359e2.pdf
footprint TS040 (Thin Small Outline; 40 Leads; Body Width 18.4 mm; Pitch 0.5 mm)
pins: 1 A16 (in), 2 A15 (in), 3 A14 (in), 4 A13 (in), 5 A12 (in), 6 A11 (in), 7 A9 (in), 8 A8 (in), 9 WE# (in), 10 RESET# (in), 11 NC, 12 RY/BY# (out), 13 A18 (in), 14 A7 (in), 15 A6 (in), 16 A5 (in), 17 A4 (in), 18 A3 (in), 19 A2 (in), 20 A1 (in), 21 A0 (in), 22 CE# (in), 23 VSS (power), 24 OE# (in), 25 DQ0 (io), 26 DQ1 (io), 27 DQ2 (io), 28 DQ3 (io), 29 NC, 30 VCC (power), 31 VCC (power), 32 DQ4 (io), 33 DQ5 (io), 34 DQ6 (io), 35 DQ7 (io), 36 A10 (in), 37 A19 (in), 38 A20 (in), 39 VSS (power), 40 A17 (in)

## AM29LV116DT-90EI
designator U?
16 Mb (2 M x 8) CMOS 3.0 Volt Boot Sector Flash Memory, 40-Pin TSOP Standard Pinout, Industrial Grade; Published: 6-Oct-2005; DatasheetVersion: May-2004; PackageVersion: revAA, 10/99; PackageReference: TS040; Publisher: Altium Limited; PackageDescription: Thin Small Outline; 40 Leads; Body Width 18.4 mm; Pitch 0.5 mm; Code_JEDEC: MO-142-CD; ComponentLink1Description: Manufacturer Link; ComponentLink1URL: http://www.spansion.com/; ComponentLink2Description: Datasheet; ComponentLink2URL: http://www.spansion.com/datasheets/21359e2.pdf
footprint TS040 (Thin Small Outline; 40 Leads; Body Width 18.4 mm; Pitch 0.5 mm)
pins: 1 A16 (in), 2 A15 (in), 3 A14 (in), 4 A13 (in), 5 A12 (in), 6 A11 (in), 7 A9 (in), 8 A8 (in), 9 WE# (in), 10 RESET# (in), 11 NC, 12 RY/BY# (out), 13 A18 (in), 14 A7 (in), 15 A6 (in), 16 A5 (in), 17 A4 (in), 18 A3 (in), 19 A2 (in), 20 A1 (in), 21 A0 (in), 22 CE# (in), 23 VSS (power), 24 OE# (in), 25 DQ0 (io), 26 DQ1 (io), 27 DQ2 (io), 28 DQ3 (io), 29 NC, 30 VCC (power), 31 VCC (power), 32 DQ4 (io), 33 DQ5 (io), 34 DQ6 (io), 35 DQ7 (io), 36 A10 (in), 37 A19 (in), 38 A20 (in), 39 VSS (power), 40 A17 (in)

## AM29LV116DT-90FC
designator U?
16 Mb (2 M x 8) CMOS 3.0 Volt Boot Sector Flash Memory, 40-Pin TSOP Reverse Pinout, Commercial Grade; Published: 6-Oct-2005; DatasheetVersion: May-2004; PackageVersion: revAA, 10/99; PackageReference: TSR040; Publisher: Altium Limited; PackageDescription: Thin Small Outline, Reverse Pinout; 40 Leads; Body Width 18.4 mm; Pitch 0.5 mm; Code_JEDEC: MO-142-CD; ComponentLink1Description: Manufacturer Link; ComponentLink1URL: http://www.spansion.com/; ComponentLink2Description: Datasheet; ComponentLink2URL: http://www.spansion.com/datasheets/21359e2.pdf
footprint TSR040 (Thin Small Outline, Reverse Pinout; 40 Leads; Body Width 18.4 mm; Pitch 0.5 mm)
pins: 1 A17 (in), 2 VSS (power), 3 A20 (in), 4 A19 (in), 5 A10 (in), 6 DQ7 (io), 7 DQ6 (io), 8 DQ5 (io), 9 DQ4 (io), 10 VCC (power), 11 VCC (power), 12 NC, 13 DQ3 (io), 14 DQ2 (io), 15 DQ1 (io), 16 DQ0 (io), 17 OE# (in), 18 VSS (power), 19 CE# (in), 20 A0 (in), 21 A1 (in), 22 A2 (in), 23 A3 (in), 24 A4 (in), 25 A5 (in), 26 A6 (in), 27 A7 (in), 28 A18 (in), 29 RY/BY# (out), 30 NC, 31 RESET# (in), 32 WE# (in), 33 A8 (in), 34 A9 (in), 35 A11 (in), 36 A12 (in), 37 A13 (in), 38 A14 (in), 39 A15 (in), 40 A16 (in)

## AM29LV116DT-90FI
designator U?
16 Mb (2 M x 8) CMOS 3.0 Volt Boot Sector Flash Memory, 40-Pin TSOP Reverse Pinout, Industrial Grade; Published: 6-Oct-2005; DatasheetVersion: May-2004; PackageVersion: revAA, 10/99; PackageReference: TSR040; Publisher: Altium Limited; PackageDescription: Thin Small Outline, Reverse Pinout; 40 Leads; Body Width 18.4 mm; Pitch 0.5 mm; Code_JEDEC: MO-142-CD; ComponentLink1Description: Manufacturer Link; ComponentLink1URL: http://www.spansion.com/; ComponentLink2Description: Datasheet; ComponentLink2URL: http://www.spansion.com/datasheets/21359e2.pdf
footprint TSR040 (Thin Small Outline, Reverse Pinout; 40 Leads; Body Width 18.4 mm; Pitch 0.5 mm)
pins: 1 A17 (in), 2 VSS (power), 3 A20 (in), 4 A19 (in), 5 A10 (in), 6 DQ7 (io), 7 DQ6 (io), 8 DQ5 (io), 9 DQ4 (io), 10 VCC (power), 11 VCC (power), 12 NC, 13 DQ3 (io), 14 DQ2 (io), 15 DQ1 (io), 16 DQ0 (io), 17 OE# (in), 18 VSS (power), 19 CE# (in), 20 A0 (in), 21 A1 (in), 22 A2 (in), 23 A3 (in), 24 A4 (in), 25 A5 (in), 26 A6 (in), 27 A7 (in), 28 A18 (in), 29 RY/BY# (out), 30 NC, 31 RESET# (in), 32 WE# (in), 33 A8 (in), 34 A9 (in), 35 A11 (in), 36 A12 (in), 37 A13 (in), 38 A14 (in), 39 A15 (in), 40 A16 (in)

## AM29LV116DT-120EC
designator U?
16 Mb (2 M x 8) CMOS 3.0 Volt Boot Sector Flash Memory, 40-Pin TSOP Standard Pinout, Commercial Grade; Published: 6-Oct-2005; DatasheetVersion: May-2004; PackageVersion: revAA, 10/99; PackageReference: TS040; Publisher: Altium Limited; PackageDescription: Thin Small Outline; 40 Leads; Body Width 18.4 mm; Pitch 0.5 mm; Code_JEDEC: MO-142-CD; ComponentLink1Description: Manufacturer Link; ComponentLink1URL: http://www.spansion.com/; ComponentLink2Description: Datasheet; ComponentLink2URL: http://www.spansion.com/datasheets/21359e2.pdf
footprint TS040 (Thin Small Outline; 40 Leads; Body Width 18.4 mm; Pitch 0.5 mm)
pins: 1 A16 (in), 2 A15 (in), 3 A14 (in), 4 A13 (in), 5 A12 (in), 6 A11 (in), 7 A9 (in), 8 A8 (in), 9 WE# (in), 10 RESET# (in), 11 NC, 12 RY/BY# (out), 13 A18 (in), 14 A7 (in), 15 A6 (in), 16 A5 (in), 17 A4 (in), 18 A3 (in), 19 A2 (in), 20 A1 (in), 21 A0 (in), 22 CE# (in), 23 VSS (power), 24 OE# (in), 25 DQ0 (io), 26 DQ1 (io), 27 DQ2 (io), 28 DQ3 (io), 29 NC, 30 VCC (power), 31 VCC (power), 32 DQ4 (io), 33 DQ5 (io), 34 DQ6 (io), 35 DQ7 (io), 36 A10 (in), 37 A19 (in), 38 A20 (in), 39 VSS (power), 40 A17 (in)

## AM29LV116DT-120ED
designator U?
16 Mb (2 M x 8) CMOS 3.0 Volt Boot Sector Flash Memory, 40-Pin TSOP Standard Pinout, Commercial Grade, Pb-free; Published: 6-Oct-2005; DatasheetVersion: May-2004; PackageVersion: revAA, 10/99; PackageReference: TS040; Publisher: Altium Limited; PackageDescription: Thin Small Outline; 40 Leads; Body Width 18.4 mm; Pitch 0.5 mm; Code_JEDEC: MO-142-CD; ComponentLink1Description: Manufacturer Link; ComponentLink1URL: http://www.spansion.com/; ComponentLink2Description: Datasheet; ComponentLink2URL: http://www.spansion.com/datasheets/21359e2.pdf
footprint TS040 (Thin Small Outline; 40 Leads; Body Width 18.4 mm; Pitch 0.5 mm)
pins: 1 A16 (in), 2 A15 (in), 3 A14 (in), 4 A13 (in), 5 A12 (in), 6 A11 (in), 7 A9 (in), 8 A8 (in), 9 WE# (in), 10 RESET# (in), 11 NC, 12 RY/BY# (out), 13 A18 (in), 14 A7 (in), 15 A6 (in), 16 A5 (in), 17 A4 (in), 18 A3 (in), 19 A2 (in), 20 A1 (in), 21 A0 (in), 22 CE# (in), 23 VSS (power), 24 OE# (in), 25 DQ0 (io), 26 DQ1 (io), 27 DQ2 (io), 28 DQ3 (io), 29 NC, 30 VCC (power), 31 VCC (power), 32 DQ4 (io), 33 DQ5 (io), 34 DQ6 (io), 35 DQ7 (io), 36 A10 (in), 37 A19 (in), 38 A20 (in), 39 VSS (power), 40 A17 (in)

## AM29LV116DT-120EF
designator U?
16 Mb (2 M x 8) CMOS 3.0 Volt Boot Sector Flash Memory, 40-Pin TSOP Standard Pinout, Industrial Grade, Pb-free; Published: 6-Oct-2005; DatasheetVersion: May-2004; PackageVersion: revAA, 10/99; PackageReference: TS040; Publisher: Altium Limited; PackageDescription: Thin Small Outline; 40 Leads; Body Width 18.4 mm; Pitch 0.5 mm; Code_JEDEC: MO-142-CD; ComponentLink1Description: Manufacturer Link; ComponentLink1URL: http://www.spansion.com/; ComponentLink2Description: Datasheet; ComponentLink2URL: http://www.spansion.com/datasheets/21359e2.pdf
footprint TS040 (Thin Small Outline; 40 Leads; Body Width 18.4 mm; Pitch 0.5 mm)
pins: 1 A16 (in), 2 A15 (in), 3 A14 (in), 4 A13 (in), 5 A12 (in), 6 A11 (in), 7 A9 (in), 8 A8 (in), 9 WE# (in), 10 RESET# (in), 11 NC, 12 RY/BY# (out), 13 A18 (in), 14 A7 (in), 15 A6 (in), 16 A5 (in), 17 A4 (in), 18 A3 (in), 19 A2 (in), 20 A1 (in), 21 A0 (in), 22 CE# (in), 23 VSS (power), 24 OE# (in), 25 DQ0 (io), 26 DQ1 (io), 27 DQ2 (io), 28 DQ3 (io), 29 NC, 30 VCC (power), 31 VCC (power), 32 DQ4 (io), 33 DQ5 (io), 34 DQ6 (io), 35 DQ7 (io), 36 A10 (in), 37 A19 (in), 38 A20 (in), 39 VSS (power), 40 A17 (in)

## AM29LV116DT-120EI
designator U?
16 Mb (2 M x 8) CMOS 3.0 Volt Boot Sector Flash Memory, 40-Pin TSOP Standard Pinout, Industrial Grade; Published: 6-Oct-2005; DatasheetVersion: May-2004; PackageVersion: revAA, 10/99; PackageReference: TS040; Publisher: Altium Limited; PackageDescription: Thin Small Outline; 40 Leads; Body Width 18.4 mm; Pitch 0.5 mm; Code_JEDEC: MO-142-CD; ComponentLink1Description: Manufacturer Link; ComponentLink1URL: http://www.spansion.com/; ComponentLink2Description: Datasheet; ComponentLink2URL: http://www.spansion.com/datasheets/21359e2.pdf
footprint TS040 (Thin Small Outline; 40 Leads; Body Width 18.4 mm; Pitch 0.5 mm)
pins: 1 A16 (in), 2 A15 (in), 3 A14 (in), 4 A13 (in), 5 A12 (in), 6 A11 (in), 7 A9 (in), 8 A8 (in), 9 WE# (in), 10 RESET# (in), 11 NC, 12 RY/BY# (out), 13 A18 (in), 14 A7 (in), 15 A6 (in), 16 A5 (in), 17 A4 (in), 18 A3 (in), 19 A2 (in), 20 A1 (in), 21 A0 (in), 22 CE# (in), 23 VSS (power), 24 OE# (in), 25 DQ0 (io), 26 DQ1 (io), 27 DQ2 (io), 28 DQ3 (io), 29 NC, 30 VCC (power), 31 VCC (power), 32 DQ4 (io), 33 DQ5 (io), 34 DQ6 (io), 35 DQ7 (io), 36 A10 (in), 37 A19 (in), 38 A20 (in), 39 VSS (power), 40 A17 (in)

## AM29LV116DT-120FC
designator U?
16 Mb (2 M x 8) CMOS 3.0 Volt Boot Sector Flash Memory, 40-Pin TSOP Reverse Pinout, Commercial Grade; Published: 6-Oct-2005; DatasheetVersion: May-2004; PackageVersion: revAA, 10/99; PackageReference: TSR040; Publisher: Altium Limited; PackageDescription: Thin Small Outline, Reverse Pinout; 40 Leads; Body Width 18.4 mm; Pitch 0.5 mm; Code_JEDEC: MO-142-CD; ComponentLink1Description: Manufacturer Link; ComponentLink1URL: http://www.spansion.com/; ComponentLink2Description: Datasheet; ComponentLink2URL: http://www.spansion.com/datasheets/21359e2.pdf
footprint TSR040 (Thin Small Outline, Reverse Pinout; 40 Leads; Body Width 18.4 mm; Pitch 0.5 mm)
pins: 1 A17 (in), 2 VSS (power), 3 A20 (in), 4 A19 (in), 5 A10 (in), 6 DQ7 (io), 7 DQ6 (io), 8 DQ5 (io), 9 DQ4 (io), 10 VCC (power), 11 VCC (power), 12 NC, 13 DQ3 (io), 14 DQ2 (io), 15 DQ1 (io), 16 DQ0 (io), 17 OE# (in), 18 VSS (power), 19 CE# (in), 20 A0 (in), 21 A1 (in), 22 A2 (in), 23 A3 (in), 24 A4 (in), 25 A5 (in), 26 A6 (in), 27 A7 (in), 28 A18 (in), 29 RY/BY# (out), 30 NC, 31 RESET# (in), 32 WE# (in), 33 A8 (in), 34 A9 (in), 35 A11 (in), 36 A12 (in), 37 A13 (in), 38 A14 (in), 39 A15 (in), 40 A16 (in)

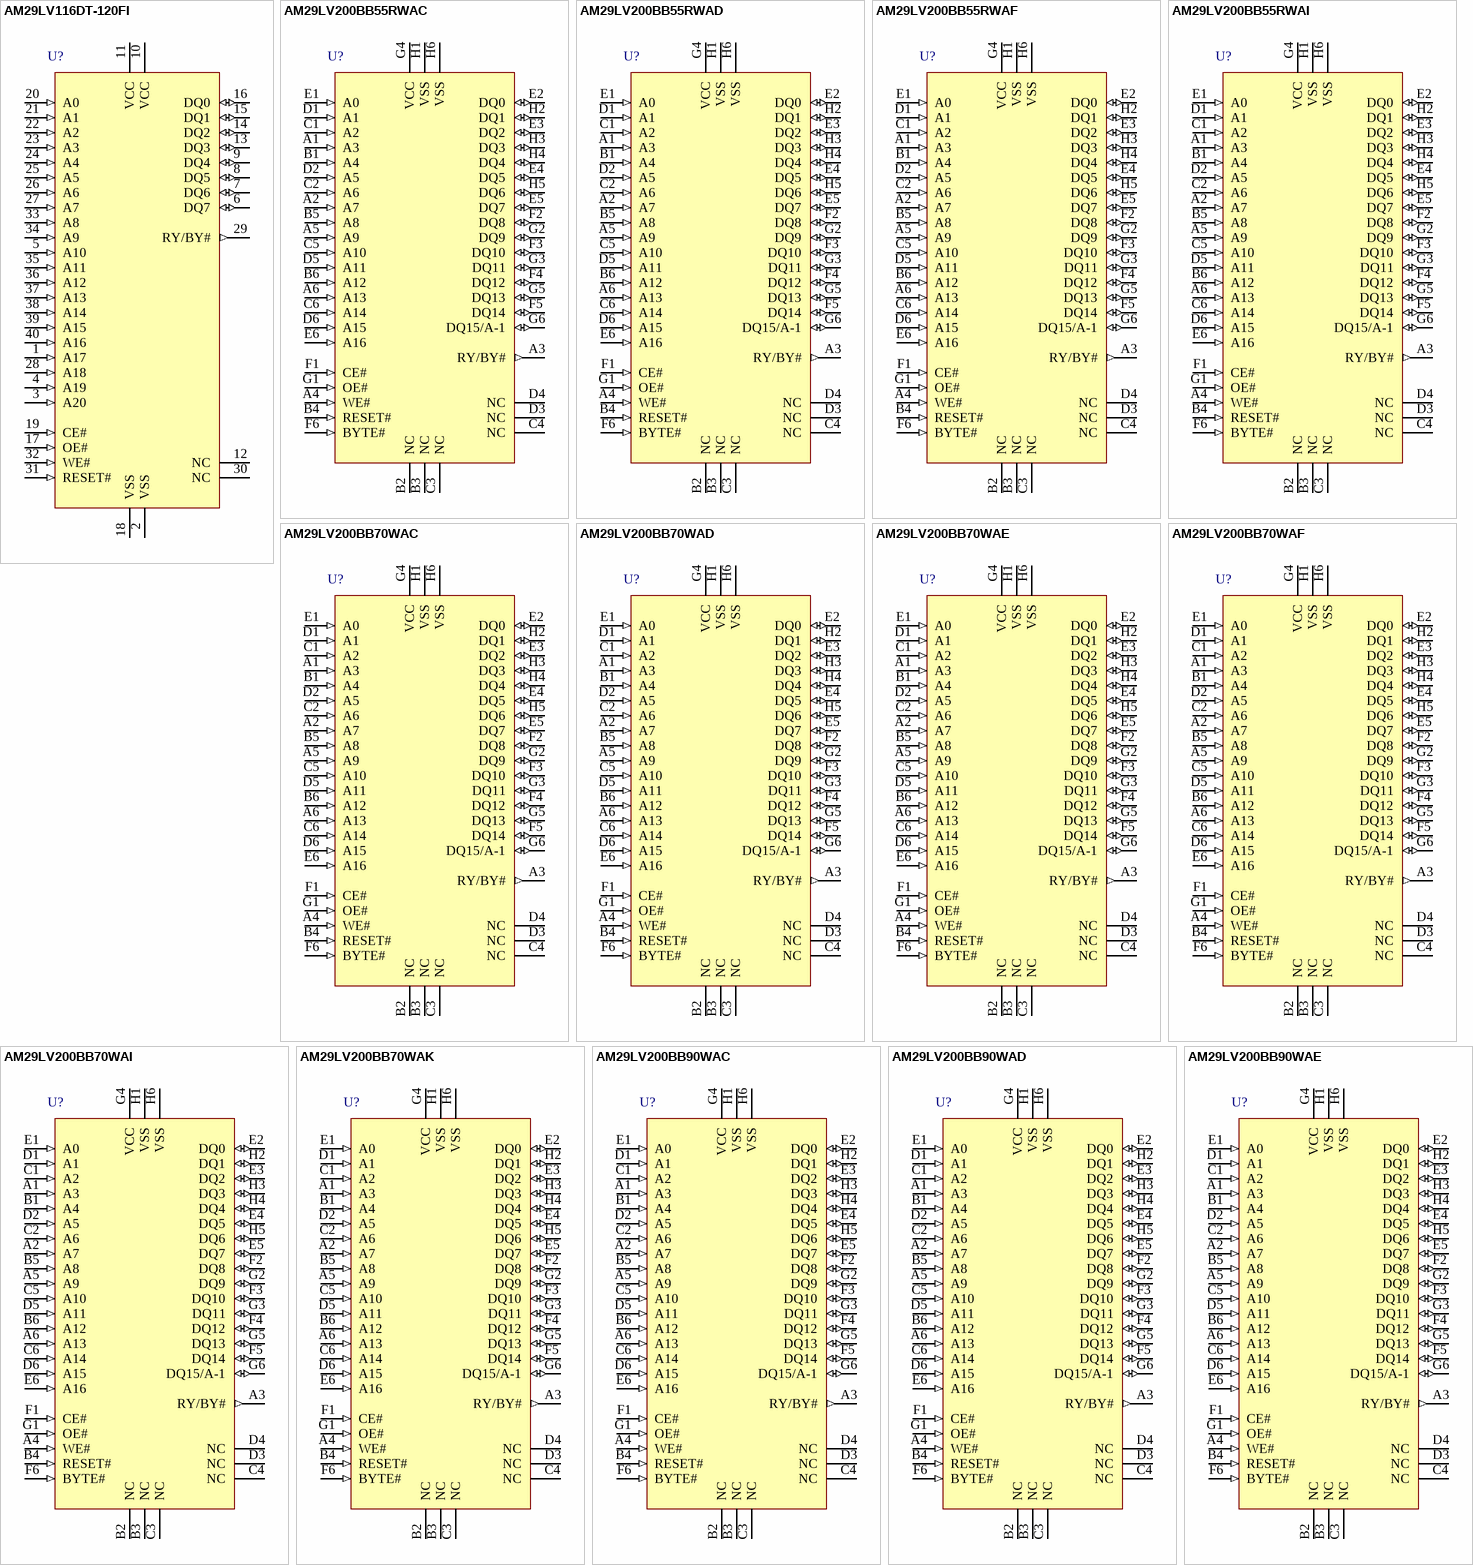
[diagram p32: symbols AM29LV116DT-120FI to AM29LV200BB90WAE]

## AM29LV116DT-120FI
designator U?
16 Mb (2 M x 8) CMOS 3.0 Volt Boot Sector Flash Memory, 40-Pin TSOP Reverse Pinout, Industrial Grade; Published: 6-Oct-2005; DatasheetVersion: May-2004; PackageVersion: revAA, 10/99; PackageReference: TSR040; Publisher: Altium Limited; PackageDescription: Thin Small Outline, Reverse Pinout; 40 Leads; Body Width 18.4 mm; Pitch 0.5 mm; Code_JEDEC: MO-142-CD; ComponentLink1Description: Manufacturer Link; ComponentLink1URL: http://www.spansion.com/; ComponentLink2Description: Datasheet; ComponentLink2URL: http://www.spansion.com/datasheets/21359e2.pdf
footprint TSR040 (Thin Small Outline, Reverse Pinout; 40 Leads; Body Width 18.4 mm; Pitch 0.5 mm)
pins: 1 A17 (in), 2 VSS (power), 3 A20 (in), 4 A19 (in), 5 A10 (in), 6 DQ7 (io), 7 DQ6 (io), 8 DQ5 (io), 9 DQ4 (io), 10 VCC (power), 11 VCC (power), 12 NC, 13 DQ3 (io), 14 DQ2 (io), 15 DQ1 (io), 16 DQ0 (io), 17 OE# (in), 18 VSS (power), 19 CE# (in), 20 A0 (in), 21 A1 (in), 22 A2 (in), 23 A3 (in), 24 A4 (in), 25 A5 (in), 26 A6 (in), 27 A7 (in), 28 A18 (in), 29 RY/BY# (out), 30 NC, 31 RESET# (in), 32 WE# (in), 33 A8 (in), 34 A9 (in), 35 A11 (in), 36 A12 (in), 37 A13 (in), 38 A14 (in), 39 A15 (in), 40 A16 (in)

## AM29LV200BB55RWAC
designator U?
2 Mb (256 K x 8 / 128 K x 16) CMOS 3.0 Volt Boot Sector Flash Memory, 48-Ball FBGA, Commercial Grade; Published: 6-Oct-2005; LatestRevisionDate: 13-Apr-2006; LatestRevisionNote: IPC-7351 Footprint Added.; DatasheetVersion: Jun-2004; PackageVersion: revAF, 10/99; PackageReference: FBA048; Publisher: Altium Limited; PackageDescription: 48-Ball Fine Pitch Ball Grid Array Rectangular 0.8 mm Pitch; ComponentLink1Description: Manufacturer Link; ComponentLink1URL: http://www.spansion.com/; ComponentLink2Description: Datasheet; ComponentLink2URL: http://www.spansion.com/datasheets/21521d3.pdf
footprint FBA048 (BGA, 48-Leads, Body 8x6mm, Pitch 0.8mm)
pins: A1 A3 (in), A2 A7 (in), A3 RY/BY# (out), A4 WE# (in), A5 A9 (in), A6 A13 (in), B1 A4 (in), B2 NC, B3 NC, B4 RESET# (in), B5 A8 (in), B6 A12 (in), C1 A2 (in), C2 A6 (in), C3 NC, C4 NC, C5 A10 (in), C6 A14 (in), D1 A1 (in), D2 A5 (in), D3 NC, D4 NC, D5 A11 (in), D6 A15 (in), E1 A0 (in), E2 DQ0 (io), E3 DQ2 (io), E4 DQ5 (io), E5 DQ7 (io), E6 A16 (in), F1 CE# (in), F2 DQ8 (io), F3 DQ10 (io), F4 DQ12 (io), F5 DQ14 (io), F6 BYTE# (in), G1 OE# (in), G2 DQ9 (io), G3 DQ11 (io), G4 VCC (power), G5 DQ13 (io), G6 DQ15/A-1 (io), H1 VSS (power), H2 DQ1 (io), H3 DQ3 (io), H4 DQ4 (io), H5 DQ6 (io), H6 VSS (power)

## AM29LV200BB55RWAD
designator U?
2 Mb (256 K x 8 / 128 K x 16) CMOS 3.0 Volt Boot Sector Flash Memory, 48-Ball FBGA, Commercial Grade, Pb-free; Published: 6-Oct-2005; LatestRevisionDate: 13-Apr-2006; LatestRevisionNote: IPC-7351 Footprint Added.; DatasheetVersion: Jun-2004; PackageVersion: revAF, 10/99; PackageReference: FBA048; Publisher: Altium Limited; PackageDescription: 48-Ball Fine Pitch Ball Grid Array Rectangular 0.8 mm Pitch; ComponentLink1Description: Manufacturer Link; ComponentLink1URL: http://www.spansion.com/; ComponentLink2Description: Datasheet; ComponentLink2URL: http://www.spansion.com/datasheets/21521d3.pdf
footprint FBA048 (BGA, 48-Leads, Body 8x6mm, Pitch 0.8mm)
pins: A1 A3 (in), A2 A7 (in), A3 RY/BY# (out), A4 WE# (in), A5 A9 (in), A6 A13 (in), B1 A4 (in), B2 NC, B3 NC, B4 RESET# (in), B5 A8 (in), B6 A12 (in), C1 A2 (in), C2 A6 (in), C3 NC, C4 NC, C5 A10 (in), C6 A14 (in), D1 A1 (in), D2 A5 (in), D3 NC, D4 NC, D5 A11 (in), D6 A15 (in), E1 A0 (in), E2 DQ0 (io), E3 DQ2 (io), E4 DQ5 (io), E5 DQ7 (io), E6 A16 (in), F1 CE# (in), F2 DQ8 (io), F3 DQ10 (io), F4 DQ12 (io), F5 DQ14 (io), F6 BYTE# (in), G1 OE# (in), G2 DQ9 (io), G3 DQ11 (io), G4 VCC (power), G5 DQ13 (io), G6 DQ15/A-1 (io), H1 VSS (power), H2 DQ1 (io), H3 DQ3 (io), H4 DQ4 (io), H5 DQ6 (io), H6 VSS (power)

## AM29LV200BB55RWAF
designator U?
2 Mb (256 K x 8 / 128 K x 16) CMOS 3.0 Volt Boot Sector Flash Memory, 48-Ball FBGA, Industrial Grade, Pb-free; Published: 6-Oct-2005; LatestRevisionDate: 13-Apr-2006; LatestRevisionNote: IPC-7351 Footprint Added.; DatasheetVersion: Jun-2004; PackageVersion: revAF, 10/99; PackageReference: FBA048; Publisher: Altium Limited; PackageDescription: 48-Ball Fine Pitch Ball Grid Array Rectangular 0.8 mm Pitch; ComponentLink1Description: Manufacturer Link; ComponentLink1URL: http://www.spansion.com/; ComponentLink2Description: Datasheet; ComponentLink2URL: http://www.spansion.com/datasheets/21521d3.pdf
footprint FBA048 (BGA, 48-Leads, Body 8x6mm, Pitch 0.8mm)
pins: A1 A3 (in), A2 A7 (in), A3 RY/BY# (out), A4 WE# (in), A5 A9 (in), A6 A13 (in), B1 A4 (in), B2 NC, B3 NC, B4 RESET# (in), B5 A8 (in), B6 A12 (in), C1 A2 (in), C2 A6 (in), C3 NC, C4 NC, C5 A10 (in), C6 A14 (in), D1 A1 (in), D2 A5 (in), D3 NC, D4 NC, D5 A11 (in), D6 A15 (in), E1 A0 (in), E2 DQ0 (io), E3 DQ2 (io), E4 DQ5 (io), E5 DQ7 (io), E6 A16 (in), F1 CE# (in), F2 DQ8 (io), F3 DQ10 (io), F4 DQ12 (io), F5 DQ14 (io), F6 BYTE# (in), G1 OE# (in), G2 DQ9 (io), G3 DQ11 (io), G4 VCC (power), G5 DQ13 (io), G6 DQ15/A-1 (io), H1 VSS (power), H2 DQ1 (io), H3 DQ3 (io), H4 DQ4 (io), H5 DQ6 (io), H6 VSS (power)

## AM29LV200BB55RWAI
designator U?
2 Mb (256 K x 8 / 128 K x 16) CMOS 3.0 Volt Boot Sector Flash Memory, 48-Ball FBGA, Industrial Grade; Published: 6-Oct-2005; LatestRevisionDate: 13-Apr-2006; LatestRevisionNote: IPC-7351 Footprint Added.; DatasheetVersion: Jun-2004; PackageVersion: revAF, 10/99; PackageReference: FBA048; Publisher: Altium Limited; PackageDescription: 48-Ball Fine Pitch Ball Grid Array Rectangular 0.8 mm Pitch; ComponentLink1Description: Manufacturer Link; ComponentLink1URL: http://www.spansion.com/; ComponentLink2Description: Datasheet; ComponentLink2URL: http://www.spansion.com/datasheets/21521d3.pdf
footprint FBA048 (BGA, 48-Leads, Body 8x6mm, Pitch 0.8mm)
pins: A1 A3 (in), A2 A7 (in), A3 RY/BY# (out), A4 WE# (in), A5 A9 (in), A6 A13 (in), B1 A4 (in), B2 NC, B3 NC, B4 RESET# (in), B5 A8 (in), B6 A12 (in), C1 A2 (in), C2 A6 (in), C3 NC, C4 NC, C5 A10 (in), C6 A14 (in), D1 A1 (in), D2 A5 (in), D3 NC, D4 NC, D5 A11 (in), D6 A15 (in), E1 A0 (in), E2 DQ0 (io), E3 DQ2 (io), E4 DQ5 (io), E5 DQ7 (io), E6 A16 (in), F1 CE# (in), F2 DQ8 (io), F3 DQ10 (io), F4 DQ12 (io), F5 DQ14 (io), F6 BYTE# (in), G1 OE# (in), G2 DQ9 (io), G3 DQ11 (io), G4 VCC (power), G5 DQ13 (io), G6 DQ15/A-1 (io), H1 VSS (power), H2 DQ1 (io), H3 DQ3 (io), H4 DQ4 (io), H5 DQ6 (io), H6 VSS (power)

## AM29LV200BB70WAC
designator U?
2 Mb (256 K x 8 / 128 K x 16) CMOS 3.0 Volt Boot Sector Flash Memory, 48-Ball FBGA, Commercial Grade; Published: 6-Oct-2005; LatestRevisionDate: 13-Apr-2006; LatestRevisionNote: IPC-7351 Footprint Added.; DatasheetVersion: Jun-2004; PackageVersion: revAF, 10/99; PackageReference: FBA048; Publisher: Altium Limited; PackageDescription: 48-Ball Fine Pitch Ball Grid Array Rectangular 0.8 mm Pitch; ComponentLink1Description: Manufacturer Link; ComponentLink1URL: http://www.spansion.com/; ComponentLink2Description: Datasheet; ComponentLink2URL: http://www.spansion.com/datasheets/21521d3.pdf
footprint FBA048 (BGA, 48-Leads, Body 8x6mm, Pitch 0.8mm)
pins: A1 A3 (in), A2 A7 (in), A3 RY/BY# (out), A4 WE# (in), A5 A9 (in), A6 A13 (in), B1 A4 (in), B2 NC, B3 NC, B4 RESET# (in), B5 A8 (in), B6 A12 (in), C1 A2 (in), C2 A6 (in), C3 NC, C4 NC, C5 A10 (in), C6 A14 (in), D1 A1 (in), D2 A5 (in), D3 NC, D4 NC, D5 A11 (in), D6 A15 (in), E1 A0 (in), E2 DQ0 (io), E3 DQ2 (io), E4 DQ5 (io), E5 DQ7 (io), E6 A16 (in), F1 CE# (in), F2 DQ8 (io), F3 DQ10 (io), F4 DQ12 (io), F5 DQ14 (io), F6 BYTE# (in), G1 OE# (in), G2 DQ9 (io), G3 DQ11 (io), G4 VCC (power), G5 DQ13 (io), G6 DQ15/A-1 (io), H1 VSS (power), H2 DQ1 (io), H3 DQ3 (io), H4 DQ4 (io), H5 DQ6 (io), H6 VSS (power)

## AM29LV200BB70WAD
designator U?
2 Mb (256 K x 8 / 128 K x 16) CMOS 3.0 Volt Boot Sector Flash Memory, 48-Ball FBGA, Commercial Grade, Pb-free; Published: 6-Oct-2005; LatestRevisionDate: 13-Apr-2006; LatestRevisionNote: IPC-7351 Footprint Added.; DatasheetVersion: Jun-2004; PackageVersion: revAF, 10/99; PackageReference: FBA048; Publisher: Altium Limited; PackageDescription: 48-Ball Fine Pitch Ball Grid Array Rectangular 0.8 mm Pitch; ComponentLink1Description: Manufacturer Link; ComponentLink1URL: http://www.spansion.com/; ComponentLink2Description: Datasheet; ComponentLink2URL: http://www.spansion.com/datasheets/21521d3.pdf
footprint FBA048 (BGA, 48-Leads, Body 8x6mm, Pitch 0.8mm)
pins: A1 A3 (in), A2 A7 (in), A3 RY/BY# (out), A4 WE# (in), A5 A9 (in), A6 A13 (in), B1 A4 (in), B2 NC, B3 NC, B4 RESET# (in), B5 A8 (in), B6 A12 (in), C1 A2 (in), C2 A6 (in), C3 NC, C4 NC, C5 A10 (in), C6 A14 (in), D1 A1 (in), D2 A5 (in), D3 NC, D4 NC, D5 A11 (in), D6 A15 (in), E1 A0 (in), E2 DQ0 (io), E3 DQ2 (io), E4 DQ5 (io), E5 DQ7 (io), E6 A16 (in), F1 CE# (in), F2 DQ8 (io), F3 DQ10 (io), F4 DQ12 (io), F5 DQ14 (io), F6 BYTE# (in), G1 OE# (in), G2 DQ9 (io), G3 DQ11 (io), G4 VCC (power), G5 DQ13 (io), G6 DQ15/A-1 (io), H1 VSS (power), H2 DQ1 (io), H3 DQ3 (io), H4 DQ4 (io), H5 DQ6 (io), H6 VSS (power)

## AM29LV200BB70WAE
designator U?
2 Mb (256 K x 8 / 128 K x 16) CMOS 3.0 Volt Boot Sector Flash Memory, 48-Ball FBGA, Extended Grade; Published: 6-Oct-2005; LatestRevisionDate: 13-Apr-2006; LatestRevisionNote: IPC-7351 Footprint Added.; DatasheetVersion: Jun-2004; PackageVersion: revAF, 10/99; PackageReference: FBA048; Publisher: Altium Limited; PackageDescription: 48-Ball Fine Pitch Ball Grid Array Rectangular 0.8 mm Pitch; ComponentLink1Description: Manufacturer Link; ComponentLink1URL: http://www.spansion.com/; ComponentLink2Description: Datasheet; ComponentLink2URL: http://www.spansion.com/datasheets/21521d3.pdf
footprint FBA048 (BGA, 48-Leads, Body 8x6mm, Pitch 0.8mm)
pins: A1 A3 (in), A2 A7 (in), A3 RY/BY# (out), A4 WE# (in), A5 A9 (in), A6 A13 (in), B1 A4 (in), B2 NC, B3 NC, B4 RESET# (in), B5 A8 (in), B6 A12 (in), C1 A2 (in), C2 A6 (in), C3 NC, C4 NC, C5 A10 (in), C6 A14 (in), D1 A1 (in), D2 A5 (in), D3 NC, D4 NC, D5 A11 (in), D6 A15 (in), E1 A0 (in), E2 DQ0 (io), E3 DQ2 (io), E4 DQ5 (io), E5 DQ7 (io), E6 A16 (in), F1 CE# (in), F2 DQ8 (io), F3 DQ10 (io), F4 DQ12 (io), F5 DQ14 (io), F6 BYTE# (in), G1 OE# (in), G2 DQ9 (io), G3 DQ11 (io), G4 VCC (power), G5 DQ13 (io), G6 DQ15/A-1 (io), H1 VSS (power), H2 DQ1 (io), H3 DQ3 (io), H4 DQ4 (io), H5 DQ6 (io), H6 VSS (power)

## AM29LV200BB70WAF
designator U?
2 Mb (256 K x 8 / 128 K x 16) CMOS 3.0 Volt Boot Sector Flash Memory, 48-Ball FBGA, Industrial Grade, Pb-free; Published: 6-Oct-2005; LatestRevisionDate: 13-Apr-2006; LatestRevisionNote: IPC-7351 Footprint Added.; DatasheetVersion: Jun-2004; PackageVersion: revAF, 10/99; PackageReference: FBA048; Publisher: Altium Limited; PackageDescription: 48-Ball Fine Pitch Ball Grid Array Rectangular 0.8 mm Pitch; ComponentLink1Description: Manufacturer Link; ComponentLink1URL: http://www.spansion.com/; ComponentLink2Description: Datasheet; ComponentLink2URL: http://www.spansion.com/datasheets/21521d3.pdf
footprint FBA048 (BGA, 48-Leads, Body 8x6mm, Pitch 0.8mm)
pins: A1 A3 (in), A2 A7 (in), A3 RY/BY# (out), A4 WE# (in), A5 A9 (in), A6 A13 (in), B1 A4 (in), B2 NC, B3 NC, B4 RESET# (in), B5 A8 (in), B6 A12 (in), C1 A2 (in), C2 A6 (in), C3 NC, C4 NC, C5 A10 (in), C6 A14 (in), D1 A1 (in), D2 A5 (in), D3 NC, D4 NC, D5 A11 (in), D6 A15 (in), E1 A0 (in), E2 DQ0 (io), E3 DQ2 (io), E4 DQ5 (io), E5 DQ7 (io), E6 A16 (in), F1 CE# (in), F2 DQ8 (io), F3 DQ10 (io), F4 DQ12 (io), F5 DQ14 (io), F6 BYTE# (in), G1 OE# (in), G2 DQ9 (io), G3 DQ11 (io), G4 VCC (power), G5 DQ13 (io), G6 DQ15/A-1 (io), H1 VSS (power), H2 DQ1 (io), H3 DQ3 (io), H4 DQ4 (io), H5 DQ6 (io), H6 VSS (power)

## AM29LV200BB70WAI
designator U?
2 Mb (256 K x 8 / 128 K x 16) CMOS 3.0 Volt Boot Sector Flash Memory, 48-Ball FBGA, Industrial Grade; Published: 6-Oct-2005; LatestRevisionDate: 13-Apr-2006; LatestRevisionNote: IPC-7351 Footprint Added.; DatasheetVersion: Jun-2004; PackageVersion: revAF, 10/99; PackageReference: FBA048; Publisher: Altium Limited; PackageDescription: 48-Ball Fine Pitch Ball Grid Array Rectangular 0.8 mm Pitch; ComponentLink1Description: Manufacturer Link; ComponentLink1URL: http://www.spansion.com/; ComponentLink2Description: Datasheet; ComponentLink2URL: http://www.spansion.com/datasheets/21521d3.pdf
footprint FBA048 (BGA, 48-Leads, Body 8x6mm, Pitch 0.8mm)
pins: A1 A3 (in), A2 A7 (in), A3 RY/BY# (out), A4 WE# (in), A5 A9 (in), A6 A13 (in), B1 A4 (in), B2 NC, B3 NC, B4 RESET# (in), B5 A8 (in), B6 A12 (in), C1 A2 (in), C2 A6 (in), C3 NC, C4 NC, C5 A10 (in), C6 A14 (in), D1 A1 (in), D2 A5 (in), D3 NC, D4 NC, D5 A11 (in), D6 A15 (in), E1 A0 (in), E2 DQ0 (io), E3 DQ2 (io), E4 DQ5 (io), E5 DQ7 (io), E6 A16 (in), F1 CE# (in), F2 DQ8 (io), F3 DQ10 (io), F4 DQ12 (io), F5 DQ14 (io), F6 BYTE# (in), G1 OE# (in), G2 DQ9 (io), G3 DQ11 (io), G4 VCC (power), G5 DQ13 (io), G6 DQ15/A-1 (io), H1 VSS (power), H2 DQ1 (io), H3 DQ3 (io), H4 DQ4 (io), H5 DQ6 (io), H6 VSS (power)

## AM29LV200BB70WAK
designator U?
2 Mb (256 K x 8 / 128 K x 16) CMOS 3.0 Volt Boot Sector Flash Memory, 48-Ball FBGA, Extended Grade, Pb-free; Published: 6-Oct-2005; LatestRevisionDate: 13-Apr-2006; LatestRevisionNote: IPC-7351 Footprint Added.; DatasheetVersion: Jun-2004; PackageVersion: revAF, 10/99; PackageReference: FBA048; Publisher: Altium Limited; PackageDescription: 48-Ball Fine Pitch Ball Grid Array Rectangular 0.8 mm Pitch; ComponentLink1Description: Manufacturer Link; ComponentLink1URL: http://www.spansion.com/; ComponentLink2Description: Datasheet; ComponentLink2URL: http://www.spansion.com/datasheets/21521d3.pdf
footprint FBA048 (BGA, 48-Leads, Body 8x6mm, Pitch 0.8mm)
pins: A1 A3 (in), A2 A7 (in), A3 RY/BY# (out), A4 WE# (in), A5 A9 (in), A6 A13 (in), B1 A4 (in), B2 NC, B3 NC, B4 RESET# (in), B5 A8 (in), B6 A12 (in), C1 A2 (in), C2 A6 (in), C3 NC, C4 NC, C5 A10 (in), C6 A14 (in), D1 A1 (in), D2 A5 (in), D3 NC, D4 NC, D5 A11 (in), D6 A15 (in), E1 A0 (in), E2 DQ0 (io), E3 DQ2 (io), E4 DQ5 (io), E5 DQ7 (io), E6 A16 (in), F1 CE# (in), F2 DQ8 (io), F3 DQ10 (io), F4 DQ12 (io), F5 DQ14 (io), F6 BYTE# (in), G1 OE# (in), G2 DQ9 (io), G3 DQ11 (io), G4 VCC (power), G5 DQ13 (io), G6 DQ15/A-1 (io), H1 VSS (power), H2 DQ1 (io), H3 DQ3 (io), H4 DQ4 (io), H5 DQ6 (io), H6 VSS (power)